# Altium integrated library mcu.IntLib: 53 symbols (part 3 of 3)
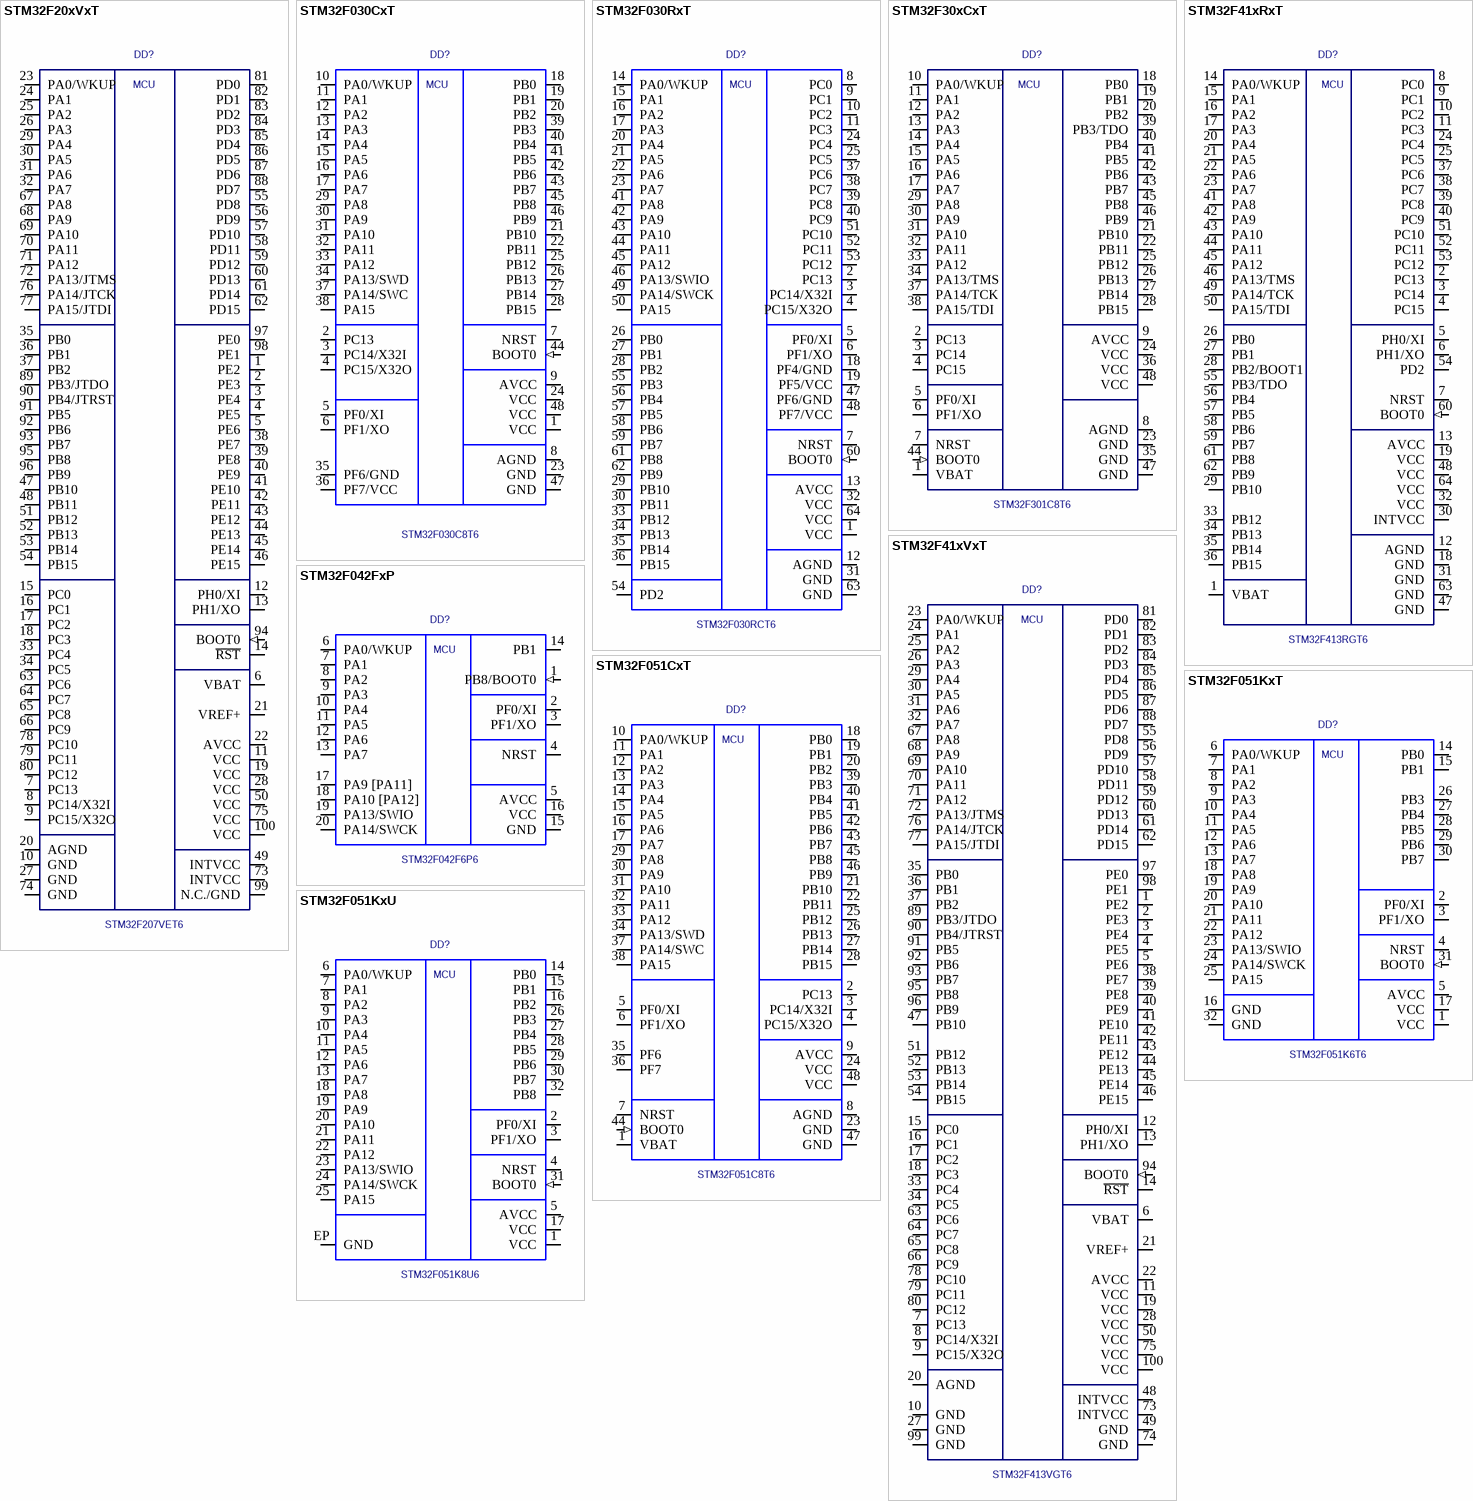
[diagram p9: symbols STM32F20xVxT to STM32F051KxU]

## STM32F030RxT
designator DD?, comment STM32F030RСT6
32-bit 48 MHz ARM; Value: STM32F030RСT6
footprint LQFP64
pins: 1 VCC (power), 2 PC13 (io), 3 PC14/X32I (io), 4 PC15/X32O (io), 5 PF0/XI (io), 6 PF1/XO (io), 7 NRST (io), 8 PC0 (io), 9 PC1 (io), 10 PC2 (io), 11 PC3 (io), 12 AGND (power), 13 AVCC (power), 14 PA0/WKUP (io), 15 PA1 (io), 16 PA2 (io), 17 PA3 (io), 18 PF4/GND (io), 19 PF5/VCC (io), 20 PA4 (io), 21 PA5 (io), 22 PA6 (io), 23 PA7 (io), 24 PC4 (io), 25 PC5 (io), 26 PB0 (io), 27 PB1 (io), 28 PB2 (io), 29 PB10 (io), 30 PB11 (io), 31 GND (power), 32 VCC (power), 33 PB12 (io), 34 PB13 (io), 35 PB14 (io), 36 PB15 (io), 37 PC6 (io), 38 PC7 (io), 39 PC8 (io), 40 PC9 (io), 41 PA8 (io), 42 PA9 (io), 43 PA10 (io), 44 PA11 (io), 45 PA12 (io), 46 PA13/SWIO (io), 47 PF6/GND (io), 48 PF7/VCC (io), 49 PA14/SWCK (io), 50 PA15 (io), 51 PC10 (io), 52 PC11 (io), 53 PC12 (io), 54 PD2 (io), 55 PB3 (io), 56 PB4 (io), 57 PB5 (io), 58 PB6 (io), 59 PB7 (io), 60 BOOT0 (in), 61 PB8 (io), 62 PB9 (io), 63 GND (power), 64 VCC (power)
text: MCU

## STM32F30xCxT
designator DD?, comment STM32F301C8T6
32-bit 72 MHz MCU; Value: STM32F301C8T6
footprint LQFP48
pins: 1 VBAT (power), 2 PC13 (io), 3 PC14 (io), 4 PC15 (io), 5 PF0/XI (io), 6 PF1/XO (io), 7 NRST (io), 8 AGND (power), 9 AVCC (power), 10 PA0/WKUP (io), 11 PA1 (io), 12 PA2 (io), 13 PA3 (io), 14 PA4 (io), 15 PA5 (io), 16 PA6 (io), 17 PA7 (io), 18 PB0 (io), 19 PB1 (io), 20 PB2 (io), 21 PB10 (io), 22 PB11 (io), 23 GND (power), 24 VCC (power), 25 PB12 (io), 26 PB13 (io), 27 PB14 (io), 28 PB15 (io), 29 PA8 (io), 30 PA9 (io), 31 PA10 (io), 32 PA11 (io), 33 PA12 (io), 34 PA13/TMS (io), 35 GND (power), 36 VCC (power), 37 PA14/TCK (io), 38 PA15/TDI (io), 39 PB3/TDO (io), 40 PB4 (io), 41 PB5 (io), 42 PB6 (io), 43 PB7 (io), 44 BOOT0 (in), 45 PB8 (io), 46 PB9 (io), 47 GND (power), 48 VCC (power)
text: MCU

## STM32F41xRxT
designator DD?, comment STM32F413RGT6
32-bit 120 MHz MCU; Value: STM32F413RGT6
footprint LQFP64
pins: 1 VBAT (power), 2 PC13 (io), 3 PC14 (io), 4 PC15 (io), 5 PH0/XI (io), 6 PH1/XO (io), 7 NRST (io), 8 PC0 (io), 9 PC1 (io), 10 PC2 (io), 11 PC3 (io), 12 AGND (power), 13 AVCC (power), 14 PA0/WKUP (io), 15 PA1 (io), 16 PA2 (io), 17 PA3 (io), 18 GND (power), 19 VCC (power), 20 PA4 (io), 21 PA5 (io), 22 PA6 (io), 23 PA7 (io), 24 PC4 (io), 25 PC5 (io), 26 PB0 (io), 27 PB1 (io), 28 PB2/BOOT1 (io), 29 PB10 (io), 30 INTVCC, 31 GND (power), 32 VCC (power), 33 PB12 (io), 34 PB13 (io), 35 PB14 (io), 36 PB15 (io), 37 PC6 (io), 38 PC7 (io), 39 PC8 (io), 40 PC9 (io), 41 PA8 (io), 42 PA9 (io), 43 PA10 (io), 44 PA11 (io), 45 PA12 (io), 46 PA13/TMS (io), 47 GND (power), 48 VCC (power), 49 PA14/TCK (io), 50 PA15/TDI (io), 51 PC10 (io), 52 PC11 (io), 53 PC12 (io), 54 PD2 (io), 55 PB3/TDO (io), 56 PB4 (io), 57 PB5 (io), 58 PB6 (io), 59 PB7 (io), 60 BOOT0 (in), 61 PB8 (io), 62 PB9 (io), 63 GND (power), 64 VCC (power)
text: MCU

## STM32F41xVxT
designator DD?, comment STM32F413VGT6
32-bit 100 MHz MCU; Value: STM32F413VGT6
footprint TQFP100
pins: 1 PE2 (io), 2 PE3 (io), 3 PE4 (io), 4 PE5 (io), 5 PE6 (io), 6 VBAT (power), 7 PC13 (io), 8 PC14/X32I (io), 9 PC15/X32O (io), 10 GND (power), 11 VCC (power), 12 PH0/XI (io), 13 PH1/XO (io), 14 ~{RST} (io), 15 PC0 (io), 16 PC1 (io), 17 PC2 (io), 18 PC3 (io), 19 VCC (power), 20 AGND (power), 21 VREF+, 22 AVCC (power), 23 PA0/WKUP (io), 24 PA1 (io), 25 PA2 (io), 26 PA3 (io), 27 GND (power), 28 VCC (power), 29 PA4 (io), 30 PA5 (io), 31 PA6 (io), 32 PA7 (io), 33 PC4 (io), 34 PC5 (io), 35 PB0 (io), 36 PB1 (io), 37 PB2 (io), 38 PE7 (io), 39 PE8 (io), 40 PE9 (io), 41 PE10 (io), 42 PE11 (io), 43 PE12 (io), 44 PE13 (io), 45 PE14 (io), 46 PE15 (io), 47 PB10 (io), 48 INTVCC, 49 GND (power), 50 VCC (power), 51 PB12 (io), 52 PB13 (io), 53 PB14 (io), 54 PB15 (io), 55 PD8 (io), 56 PD9 (io), 57 PD10 (io), 58 PD11 (io), 59 PD12 (io), 60 PD13 (io), 61 PD14 (io), 62 PD15 (io), 63 PC6 (io), 64 PC7 (io), 65 PC8 (io), 66 PC9 (io), 67 PA8 (io), 68 PA9 (io), 69 PA10 (io), 70 PA11 (io), 71 PA12 (io), 72 PA13/JTMS (io), 73 INTVCC, 74 GND (power), 75 VCC (power), 76 PA14/JTCK (io), 77 PA15/JTDI (io), 78 PC10 (io), 79 PC11 (io), 80 PC12 (io), 81 PD0 (io), 82 PD1 (io), 83 PD2 (io), 84 PD3 (io), 85 PD4 (io), 86 PD5 (io), 87 PD6 (io), 88 PD7 (io), 89 PB3/JTDO (io), 90 PB4/JTRST (io), 91 PB5 (io), 92 PB6 (io), 93 PB7 (io), 94 BOOT0 (in), 95 PB8 (io), 96 PB9 (io), 97 PE0 (io), 98 PE1 (io), 99 GND, 100 VCC (power)
text: MCU

## STM32F042FxP
designator DD?, comment STM32F042F6P6
32-bit 48 MHz ARM; Value: STM32F042F6P6
footprint TSSOP20
pins: 1 PB8/BOOT0 (in), 2 PF0/XI (io), 3 PF1/XO (io), 4 NRST (io), 5 AVCC (power), 6 PA0/WKUP (io), 7 PA1 (io), 8 PA2 (io), 9 PA3 (io), 10 PA4 (io), 11 PA5 (io), 12 PA6 (io), 13 PA7 (io), 14 PB1 (io), 15 GND (power), 16 VCC (power), 17 PA9 [PA11] (io), 18 PA10 [PA12] (io), 19 PA13/SWIO (io), 20 PA14/SWCK (io)
text: MCU

## STM32F051CxT
designator DD?, comment STM32F051C8T6
32-bit 48 MHz ARM; Value: STM32F051C8T6
footprint LQFP48
pins: 1 VBAT (power), 2 PC13 (io), 3 PC14/X32I (io), 4 PC15/X32O (io), 5 PF0/XI (io), 6 PF1/XO (io), 7 NRST (io), 8 AGND (power), 9 AVCC (power), 10 PA0/WKUP (io), 11 PA1 (io), 12 PA2 (io), 13 PA3 (io), 14 PA4 (io), 15 PA5 (io), 16 PA6 (io), 17 PA7 (io), 18 PB0 (io), 19 PB1 (io), 20 PB2 (io), 21 PB10 (io), 22 PB11 (io), 23 GND (power), 24 VCC (power), 25 PB12 (io), 26 PB13 (io), 27 PB14 (io), 28 PB15 (io), 29 PA8 (io), 30 PA9 (io), 31 PA10 (io), 32 PA11 (io), 33 PA12 (io), 34 PA13/SWD (io), 35 PF6 (io), 36 PF7 (io), 37 PA14/SWC (io), 38 PA15 (io), 39 PB3 (io), 40 PB4 (io), 41 PB5 (io), 42 PB6 (io), 43 PB7 (io), 44 BOOT0 (in), 45 PB8 (io), 46 PB9 (io), 47 GND (power), 48 VCC (power)
text: MCU

## STM32F051KxT
designator DD?, comment STM32F051K6T6
32-bit 48 MHz ARM; Value: STM32F051K6T6
footprint TQFP32 (0.8 mm pitch)
pins: 1 VCC (power), 2 PF0/XI (io), 3 PF1/XO (io), 4 NRST (io), 5 AVCC (power), 6 PA0/WKUP (io), 7 PA1 (io), 8 PA2 (io), 9 PA3 (io), 10 PA4 (io), 11 PA5 (io), 12 PA6 (io), 13 PA7 (io), 14 PB0 (io), 15 PB1 (io), 16 GND (power), 17 VCC (power), 18 PA8 (io), 19 PA9 (io), 20 PA10 (io), 21 PA11 (io), 22 PA12 (io), 23 PA13/SWIO (io), 24 PA14/SWCK (io), 25 PA15 (io), 26 PB3 (io), 27 PB4 (io), 28 PB5 (io), 29 PB6 (io), 30 PB7 (io), 31 BOOT0 (in), 32 GND (power)
text: MCU

## STM32F051KxU
designator DD?, comment STM32F051K8U6
32-bit 48 MHz ARM; Value: STM32F051K8U6
footprint MLF32
pins: 1 VCC (power), 2 PF0/XI (io), 3 PF1/XO (io), 4 NRST (io), 5 AVCC (power), 6 PA0/WKUP (io), 7 PA1 (io), 8 PA2 (io), 9 PA3 (io), 10 PA4 (io), 11 PA5 (io), 12 PA6 (io), 13 PA7 (io), 14 PB0 (io), 15 PB1 (io), 16 PB2 (io), 17 VCC (power), 18 PA8 (io), 19 PA9 (io), 20 PA10 (io), 21 PA11 (io), 22 PA12 (io), 23 PA13/SWIO (io), 24 PA14/SWCK (io), 25 PA15 (io), 26 PB3 (io), 27 PB4 (io), 28 PB5 (io), 29 PB6 (io), 30 PB7 (io), 31 BOOT0 (in), 32 PB8 (io), EP GND (power)
text: MCU

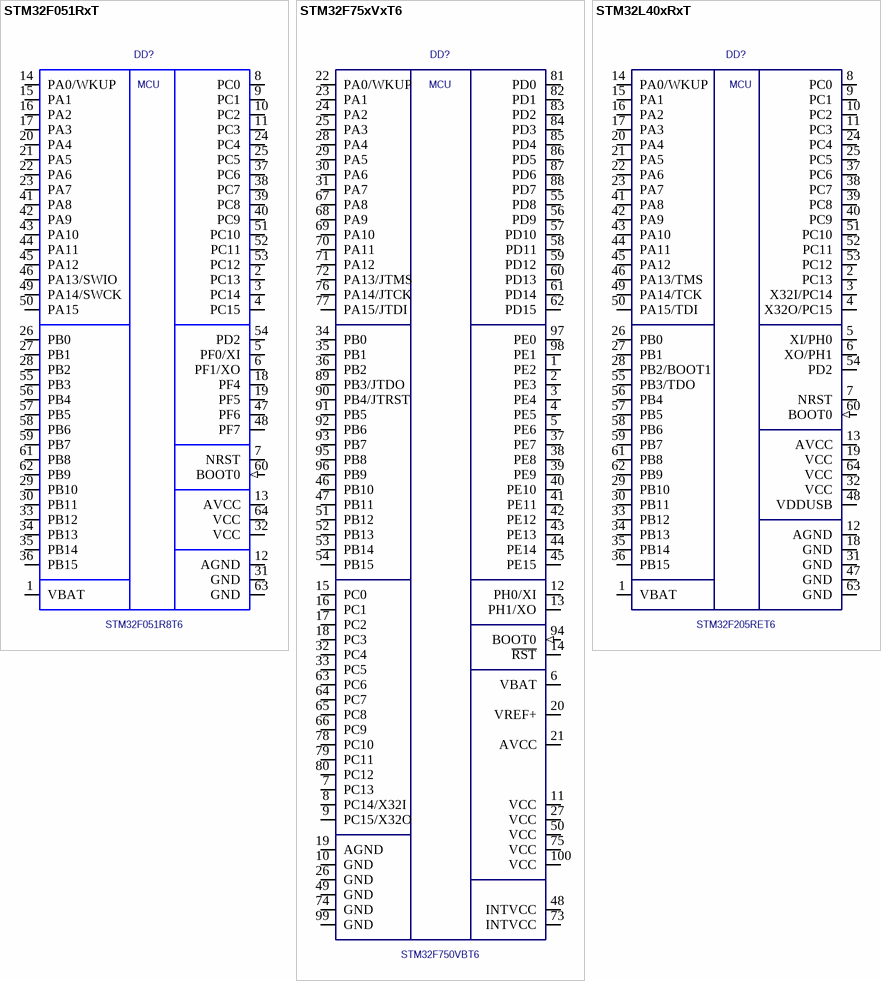
[diagram p7: symbols STM32F051RxT to STM32L40xRxT]

## STM32F051RxT
designator DD?, comment STM32F051R8T6
32-bit 48 MHz ARM; Value: STM32F051R8T6
footprint LQFP64
pins: 1 VBAT (power), 2 PC13 (io), 3 PC14 (io), 4 PC15 (io), 5 PF0/XI (io), 6 PF1/XO (io), 7 NRST (io), 8 PC0 (io), 9 PC1 (io), 10 PC2 (io), 11 PC3 (io), 12 AGND (power), 13 AVCC (power), 14 PA0/WKUP (io), 15 PA1 (io), 16 PA2 (io), 17 PA3 (io), 18 PF4 (io), 19 PF5 (io), 20 PA4 (io), 21 PA5 (io), 22 PA6 (io), 23 PA7 (io), 24 PC4 (io), 25 PC5 (io), 26 PB0 (io), 27 PB1 (io), 28 PB2 (io), 29 PB10 (io), 30 PB11 (io), 31 GND (power), 32 VCC (power), 33 PB12 (io), 34 PB13 (io), 35 PB14 (io), 36 PB15 (io), 37 PC6 (io), 38 PC7 (io), 39 PC8 (io), 40 PC9 (io), 41 PA8 (io), 42 PA9 (io), 43 PA10 (io), 44 PA11 (io), 45 PA12 (io), 46 PA13/SWIO (io), 47 PF6 (io), 48 PF7 (io), 49 PA14/SWCK (io), 50 PA15 (io), 51 PC10 (io), 52 PC11 (io), 53 PC12 (io), 54 PD2 (io), 55 PB3 (io), 56 PB4 (io), 57 PB5 (io), 58 PB6 (io), 59 PB7 (io), 60 BOOT0 (in), 61 PB8 (io), 62 PB9 (io), 63 GND (power), 64 VCC (power)
text: MCU

## STM32F75xVxT6
designator DD?, comment STM32F750VBT6
32-bit 480 MHz MCU; Value: STM32F750VBT6
footprint TQFP100
pins: 1 PE2 (io), 2 PE3 (io), 3 PE4 (io), 4 PE5 (io), 5 PE6 (io), 6 VBAT (power), 7 PC13 (io), 8 PC14/X32I (io), 9 PC15/X32O (io), 10 GND (power), 11 VCC (power), 12 PH0/XI (io), 13 PH1/XO (io), 14 ~{RST} (io), 15 PC0 (io), 16 PC1 (io), 17 PC2 (io), 18 PC3 (io), 19 AGND (power), 20 VREF+, 21 AVCC (power), 22 PA0/WKUP (io), 23 PA1 (io), 24 PA2 (io), 25 PA3 (io), 26 GND (power), 27 VCC (power), 28 PA4 (io), 29 PA5 (io), 30 PA6 (io), 31 PA7 (io), 32 PC4 (io), 33 PC5 (io), 34 PB0 (io), 35 PB1 (io), 36 PB2 (io), 37 PE7 (io), 38 PE8 (io), 39 PE9 (io), 40 PE10 (io), 41 PE11 (io), 42 PE12 (io), 43 PE13 (io), 44 PE14 (io), 45 PE15 (io), 46 PB10 (io), 47 PB11 (io), 48 INTVCC, 49 GND (power), 50 VCC (power), 51 PB12 (io), 52 PB13 (io), 53 PB14 (io), 54 PB15 (io), 55 PD8 (io), 56 PD9 (io), 57 PD10 (io), 58 PD11 (io), 59 PD12 (io), 60 PD13 (io), 61 PD14 (io), 62 PD15 (io), 63 PC6 (io), 64 PC7 (io), 65 PC8 (io), 66 PC9 (io), 67 PA8 (io), 68 PA9 (io), 69 PA10 (io), 70 PA11 (io), 71 PA12 (io), 72 PA13/JTMS (io), 73 INTVCC, 74 GND (power), 75 VCC (power), 76 PA14/JTCK (io), 77 PA15/JTDI (io), 78 PC10 (io), 79 PC11 (io), 80 PC12 (io), 81 PD0 (io), 82 PD1 (io), 83 PD2 (io), 84 PD3 (io), 85 PD4 (io), 86 PD5 (io), 87 PD6 (io), 88 PD7 (io), 89 PB3/JTDO (io), 90 PB4/JTRST (io), 91 PB5 (io), 92 PB6 (io), 93 PB7 (io), 94 BOOT0 (in), 95 PB8 (io), 96 PB9 (io), 97 PE0 (io), 98 PE1 (io), 99 GND (power), 100 VCC (power)
text: MCU

## STM32L40xRxT
designator DD?, comment STM32F205RET6
32-bit 80 MHz MCU; Value: STM32F205RET6
footprint LQFP64
pins: 1 VBAT (power), 2 PC13 (io), 3 X32I/PC14 (io), 4 X32O/PC15 (io), 5 XI/PH0 (io), 6 XO/PH1 (io), 7 NRST (io), 8 PC0 (io), 9 PC1 (io), 10 PC2 (io), 11 PC3 (io), 12 AGND (power), 13 AVCC (power), 14 PA0/WKUP (io), 15 PA1 (io), 16 PA2 (io), 17 PA3 (io), 18 GND (power), 19 VCC (power), 20 PA4 (io), 21 PA5 (io), 22 PA6 (io), 23 PA7 (io), 24 PC4 (io), 25 PC5 (io), 26 PB0 (io), 27 PB1 (io), 28 PB2/BOOT1 (io), 29 PB10 (io), 30 PB11 (io), 31 GND, 32 VCC (power), 33 PB12 (io), 34 PB13 (io), 35 PB14 (io), 36 PB15 (io), 37 PC6 (io), 38 PC7 (io), 39 PC8 (io), 40 PC9 (io), 41 PA8 (io), 42 PA9 (io), 43 PA10 (io), 44 PA11 (io), 45 PA12 (io), 46 PA13/TMS (io), 47 GND, 48 VDDUSB (power), 49 PA14/TCK (io), 50 PA15/TDI (io), 51 PC10 (io), 52 PC11 (io), 53 PC12 (io), 54 PD2 (io), 55 PB3/TDO (io), 56 PB4 (io), 57 PB5 (io), 58 PB6 (io), 59 PB7 (io), 60 BOOT0 (in), 61 PB8 (io), 62 PB9 (io), 63 GND (power), 64 VCC (power)
text: MCU